# Altium schematic symbol library ESP32_WROOM_SCH_LIB......SchLib: 13 symbols
Pins are listed as number, name and electrical type; pins without a type are passive.

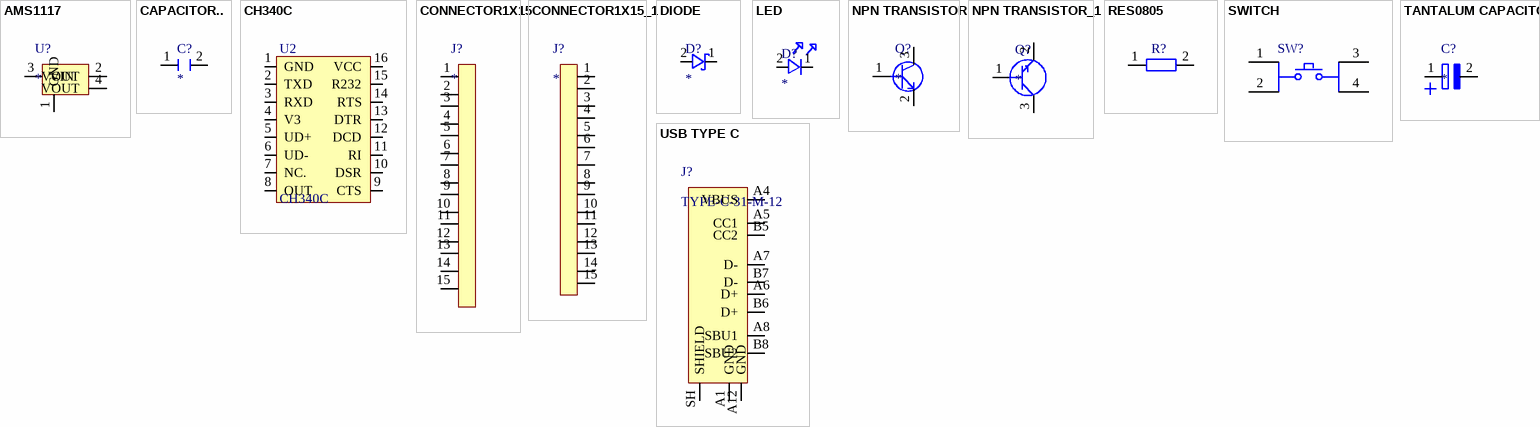
[diagram p0: symbols AMS1117 to USB TYPE C]

## AMS1117
designator U?
footprint AMS1117-3.3
pins: 1 GND, 2 VOUT, 3 VIN, 4 VOUT

## CAPACITOR..
designator C?
UNPOLERIZED
footprint CAPACITOR0603-100nF (Murata GRM188R71C104KA01D)
pins: 1, 2

## CH340C
designator U2
footprint CH340C
pins: 1 GND, 2 TXD, 3 RXD, 4 V3, 5 UD+, 6 UD-, 7 NC., 8 OUT, 9 CTS, 10 DSR, 11 RI, 12 DCD, 13 DTR, 14 RTS, 15 R232, 16 VCC

## CONNECTOR1X15
designator J?
footprint 1X15 PIN HEADER (HTSW-115-07-G-S)
pins: 1, 2, 3, 4, 5, 6, 7, 8, 9, 10, 11, 12, 13, 14, 15

## CONNECTOR1X15_1
designator J?
footprint 1X15 PIN HEADER (HTSW-115-07-G-S)
pins: 1, 2, 3, 4, 5, 6, 7, 8, 9, 10, 11, 12, 13, 14, 15

## DIODE
designator D?
footprint Schottky diode (SOD-123)
pins: 1 -, 2 +

## LED
designator D?
footprint LED0603-RED (LTST-C190KRKT)
footprint LED0603-BLUE (LTST-C190TBKT)
pins: 1 -, 2 +

## NPN TRANSISTOR
designator Q?
footprint NPN Transistor (MMBT3904LT1G)
pins: 1 B, 2 B, 3 B

## NPN TRANSISTOR_1
designator Q?
footprint NPN Transistor (MMBT3904LT1G)
pins: 1 B, 2 B, 3 B

## RES0805
designator R?
footprint RESISTOR0603-1k (RC0603FR-071KL)
footprint RESISTOR0603-5K1 (RC0603FR-075K1L)
footprint RESISTOR0603-10K (RC0603FR-0710KL)
footprint RESISTOR0603-220R (RC0603FR-07220RL)
pins: 1, 2

## SWITCH
designator SW?
SWITCH PUSH SPST-NO 0.1A 32V; Current Rating: 100mA; Electrical Life: 250000Cycles; Power Rating: 3W; Number of Terminals/Pins: 4; Actuator Length: 7mm; Actuator Type: Round, Button; Actuator Color: Grey; Operating Force: 1.3N; Row Spacing: 5mm; Throw Configuration: SPST; Switch Function: Off-Mom; Lead Free: Lead Free; Min Operating Temperature: -20°C; Series: D6; Voltage Rating (DC): 32V; Package Quantity: 2500; Max Operating Temperature: 85°C; Contact Plating: Silver; Packaging: Bulk; Color: Grey; RoHS Compliant: No; Max Voltage Rating (DC): 32V; Terminal Pitch: 5mm; Number of Pins: 4; Orientation: Straight; Mount: Through Hole; Termination: PC Pin; Diameter: 12mm; Max Current Rating: 100mA
footprint PUSHBUTTON (PTS645SL43SMTR92LFS)
pins: 1, 2, 3, 4

## TANTALUM CAPACITOR
designator C?
footprint CAPACITOR0805-10uF (Murata GRM21BR61C106KE15L)
pins: 1 +, 2 -

## USB TYPE C
designator J?, comment TYPE-C-31-M-12
footprint USB_TYPE_C (TYPE-C-31-M-12)
pins: A1 GND, A4 VBUS, A5 CC1, A6 D+, A7 D-, A8 SBU1, A12 GND, B5 CC2, B6 D+, B7 D-, B8 SBU2, SH SHIELD